# Altium integrated library Linear Technology Power Management uModule Regulators.IntLib: 166 symbols (part 63 of 67)
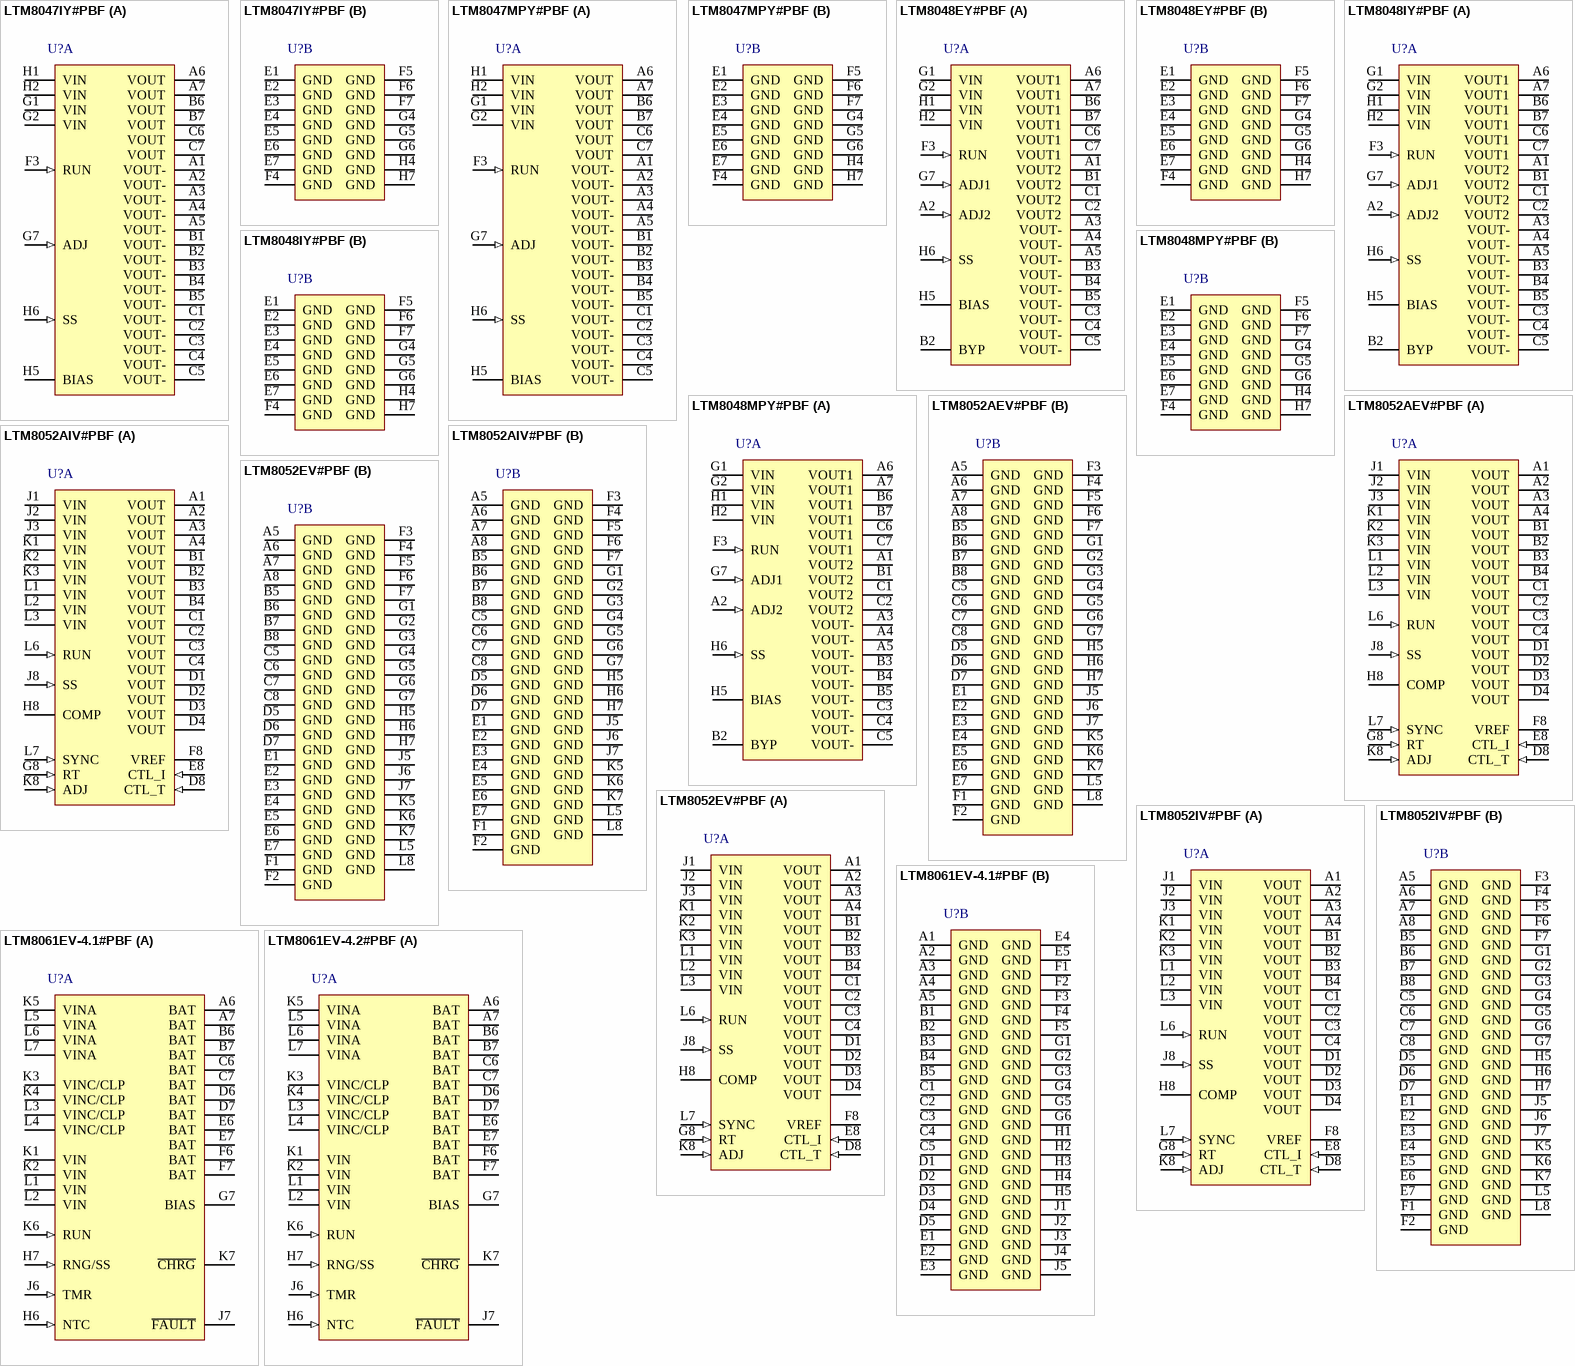
[diagram p89: symbols LTM8047IY#PBF to LTM8061EV-4.2#PBF]

## LTM8052AIV#PBF
designator U?
36 VIN, 5 A, 2-Quadrant CVCC Step-Down uModule Regulator, 81-pin LGA, -40 to 125 degC, Pb-Free, Tray; Manufacturer: Linear Technology; PartNumber: LTM8052AIV#PBF; Extended Temp: E, I; Frequency Adjust Range: 100kHz - 1MHz; Frequency(kHz): 1000; Ishutdown(uA): 0.1; Isupply(mA): 17; Number of Outputs: 1; Output Current(A): 5; Switch Current(A): 5.6; Synchronous: no; Topology: Buck; Vin Max(V): 36; Vin Min(V): 6; Vout Max(V): 24; Vout Min(V): 1.2; DatasheetVersion: Rev. C; PackageVersion: Rev. A, 01/2013; PackageReference: LGA-81; PackageDescription: 81-Pin LGA, Body 15 x 11.25 mm, Pitch 1.27 mm; Supplier 1: Digi-Key; Supplier Part Number 1: LTM8052AIV#PBF-ND; Supplier 2: Newark; Supplier Part Number 2: 24W5389; Frequency Sync Range: 100kHz - 1MHz; Packing: Tray; RoHS: TRUE; Tracking: no; Mounting Technology: Surface Mount; Code_JEDEC: MO-222; ComponentLink1Description: Manufacturer URL; ComponentLink1URL: http://www.linear.com/; ComponentLink2Description: Datasheet; ComponentLink2URL: http://cds.linear.com/docs/en/datasheet/8052fc.pdf; ComponentLink3Description: Package Specification; ComponentLink3URL: http://cds.linear.com/docs/en/packaging/05081868_A_lga81.pdf
footprint LT-LGA-81-15000X11250X2820_V (LGA, 81-Leads, Body 15x11.25mm, Pitch 1.27mm)
part A pins: A1 VOUT (power) "Power Output Pins. Apply the output filter capacitor and the output load between these pins and GND pins. When reverse current is being driven into the LTM8052/LTM8052A’s output by the load, the energy is delivered bac(See Datasheet)", A2 VOUT (power) "Power Output Pins. Apply the output filter capacitor and the output load between these pins and GND pins. When reverse current is being driven into the LTM8052/LTM8052A’s output by the load, the energy is delivered bac(See Datasheet)", A3 VOUT (power) "Power Output Pins. Apply the output filter capacitor and the output load between these pins and GND pins. When reverse current is being driven into the LTM8052/LTM8052A’s output by the load, the energy is delivered bac(See Datasheet)", A4 VOUT (power) "Power Output Pins. Apply the output filter capacitor and the output load between these pins and GND pins. When reverse current is being driven into the LTM8052/LTM8052A’s output by the load, the energy is delivered bac(See Datasheet)", B1 VOUT (power) "Power Output Pins. Apply the output filter capacitor and the output load between these pins and GND pins. When reverse current is being driven into the LTM8052/LTM8052A’s output by the load, the energy is delivered bac(See Datasheet)", B2 VOUT (power) "Power Output Pins. Apply the output filter capacitor and the output load between these pins and GND pins. When reverse current is being driven into the LTM8052/LTM8052A’s output by the load, the energy is delivered bac(See Datasheet)", B3 VOUT (power) "Power Output Pins. Apply the output filter capacitor and the output load between these pins and GND pins. When reverse current is being driven into the LTM8052/LTM8052A’s output by the load, the energy is delivered bac(See Datasheet)", B4 VOUT (power) "Power Output Pins. Apply the output filter capacitor and the output load between these pins and GND pins. When reverse current is being driven into the LTM8052/LTM8052A’s output by the load, the energy is delivered bac(See Datasheet)", C1 VOUT (power) "Power Output Pins. Apply the output filter capacitor and the output load between these pins and GND pins. When reverse current is being driven into the LTM8052/LTM8052A’s output by the load, the energy is delivered bac(See Datasheet)", C2 VOUT (power) "Power Output Pins. Apply the output filter capacitor and the output load between these pins and GND pins. When reverse current is being driven into the LTM8052/LTM8052A’s output by the load, the energy is delivered bac(See Datasheet)", C3 VOUT (power) "Power Output Pins. Apply the output filter capacitor and the output load between these pins and GND pins. When reverse current is being driven into the LTM8052/LTM8052A’s output by the load, the energy is delivered bac(See Datasheet)", C4 VOUT (power) "Power Output Pins. Apply the output filter capacitor and the output load between these pins and GND pins. When reverse current is being driven into the LTM8052/LTM8052A’s output by the load, the energy is delivered bac(See Datasheet)", D1 VOUT (power) "Power Output Pins. Apply the output filter capacitor and the output load between these pins and GND pins. When reverse current is being driven into the LTM8052/LTM8052A’s output by the load, the energy is delivered bac(See Datasheet)", D2 VOUT (power) "Power Output Pins. Apply the output filter capacitor and the output load between these pins and GND pins. When reverse current is being driven into the LTM8052/LTM8052A’s output by the load, the energy is delivered bac(See Datasheet)", D3 VOUT (power) "Power Output Pins. Apply the output filter capacitor and the output load between these pins and GND pins. When reverse current is being driven into the LTM8052/LTM8052A’s output by the load, the energy is delivered bac(See Datasheet)", D4 VOUT (power) "Power Output Pins. Apply the output filter capacitor and the output load between these pins and GND pins. When reverse current is being driven into the LTM8052/LTM8052A’s output by the load, the energy is delivered bac(See Datasheet)", D8 CTL_T (in) "Connect a resistor/NTCthermistornetwork to the CTL_T pin to reduce the maximum regulated output current of the LTM8052/LTM8052A in response to temperature. The maximum control voltage is 1.5V. If this function is not used, (See Datasheet)", E8 CTL_I (in) "The CTL_I pin reduces the maximum regulated output current of the LTM8052/LTM8052A. The maximum control voltage is 1.5V. If this function is not used, tie this pin to VREF.", F8 VREF "Buffered 2V Reference Capable of 0.5mA Drive. It is valid when VIN > 6V and RUN is active high.", G8 RT (in) "The RT pin is used to program the switching frequency of the LTM8052/LTM8052A by connecting a resistorfromthispintoground. TheApplicationsInformationsection of the data sheet includes a table to determine the (See Datasheet)", H8 COMP "Compensation Pin. This pin is generally not used. The LTM8052/LTM8052A is internally compensated, but some rare situations may arise that require a modification to the control loop. This pin connects directly (See Datasheet)", J1 VIN (power) "The VIN pins supply current to the LTM8052/ LTM8052A’s internal regulator and to the internal power  switches. This pin must be locally bypassed with an external, low ESR capacitor; see Table 1 for recommended  values.", J2 VIN (power) "The VIN pins supply current to the LTM8052/ LTM8052A’s internal regulator and to the internal power  switches. This pin must be locally bypassed with an external, low ESR capacitor; see Table 1 for recommended  values.", J3 VIN (power) "The VIN pins supply current to the LTM8052/ LTM8052A’s internal regulator and to the internal power  switches. This pin must be locally bypassed with an external, low ESR capacitor; see Table 1 for recommended  values.", J8 SS (in) "Soft-Start Pin. Place an external capacitor to ground to ramp the output voltage during start-up conditions. The soft-start pin has an 11uA charging current.", K1 VIN (power) "The VIN pins supply current to the LTM8052/ LTM8052A’s internal regulator and to the internal power  switches. This pin must be locally bypassed with an external, low ESR capacitor; see Table 1 for recommended  values.", K2 VIN (power) "The VIN pins supply current to the LTM8052/ LTM8052A’s internal regulator and to the internal power  switches. This pin must be locally bypassed with an external, low ESR capacitor; see Table 1 for recommended  values.", K3 VIN (power) "The VIN pins supply current to the LTM8052/ LTM8052A’s internal regulator and to the internal power  switches. This pin must be locally bypassed with an external, low ESR capacitor; see Table 1 for recommended  values.", K8 ADJ (in) "The LTM8052/LTM8052A regulates its ADJ pin to 1.19V. Connect the adjust resistor from this pin to ground.", L1 VIN (power) "The VIN pins supply current to the LTM8052/ LTM8052A’s internal regulator and to the internal power  switches. This pin must be locally bypassed with an external, low ESR capacitor; see Table 1 for recommended  values.", L2 VIN (power) "The VIN pins supply current to the LTM8052/ LTM8052A’s internal regulator and to the internal power  switches. This pin must be locally bypassed with an external, low ESR capacitor; see Table 1 for recommended  values.", L3 VIN (power) "The VIN pins supply current to the LTM8052/ LTM8052A’s internal regulator and to the internal power  switches. This pin must be locally bypassed with an external, low ESR capacitor; see Table 1 for recommended  values.", L6 RUN (in) "The RUN pin acts as an enable pin and turns on the internal circuitry. It may also be used to implement a precision UVLO. See the Applications Information section for details. The RUN pin is internally clamped, so it may be (See Datasheet)", L7 SYNC (in) "Frequency Synchronization Pin. This pin allows the switching frequency to be synchronized to an external clock. The RT resistor should be chosen to operate the internal clock at 20% lower than the SYNC pulse frequency. This (See Datasheet)"
part B pins: A5 GND (power) "Tie these GND pins to a local ground plane  below the LTM8052/LTM8052A and the circuit components. In most applications, the bulk of the heat flow out  of the LTM8052/LTM8052A is through these pads, so the  printed circuit (See Datasheet)", A6 GND (power) "Tie these GND pins to a local ground plane  below the LTM8052/LTM8052A and the circuit components. In most applications, the bulk of the heat flow out  of the LTM8052/LTM8052A is through these pads, so the  printed circuit (See Datasheet)", A7 GND (power) "Tie these GND pins to a local ground plane  below the LTM8052/LTM8052A and the circuit components. In most applications, the bulk of the heat flow out  of the LTM8052/LTM8052A is through these pads, so the  printed circuit (See Datasheet)", A8 GND (power) "Tie these GND pins to a local ground plane  below the LTM8052/LTM8052A and the circuit components. In most applications, the bulk of the heat flow out  of the LTM8052/LTM8052A is through these pads, so the  printed circuit (See Datasheet)", B5 GND (power) "Tie these GND pins to a local ground plane  below the LTM8052/LTM8052A and the circuit components. In most applications, the bulk of the heat flow out  of the LTM8052/LTM8052A is through these pads, so the  printed circuit (See Datasheet)", B6 GND (power) "Tie these GND pins to a local ground plane  below the LTM8052/LTM8052A and the circuit components. In most applications, the bulk of the heat flow out  of the LTM8052/LTM8052A is through these pads, so the  printed circuit (See Datasheet)", B7 GND (power) "Tie these GND pins to a local ground plane  below the LTM8052/LTM8052A and the circuit components. In most applications, the bulk of the heat flow out  of the LTM8052/LTM8052A is through these pads, so the  printed circuit (See Datasheet)", B8 GND (power) "Tie these GND pins to a local ground plane  below the LTM8052/LTM8052A and the circuit components. In most applications, the bulk of the heat flow out  of the LTM8052/LTM8052A is through these pads, so the  printed circuit (See Datasheet)", C5 GND (power) "Tie these GND pins to a local ground plane  below the LTM8052/LTM8052A and the circuit components. In most applications, the bulk of the heat flow out  of the LTM8052/LTM8052A is through these pads, so the  printed circuit (See Datasheet)", C6 GND (power) "Tie these GND pins to a local ground plane  below the LTM8052/LTM8052A and the circuit components. In most applications, the bulk of the heat flow out  of the LTM8052/LTM8052A is through these pads, so the  printed circuit (See Datasheet)", C7 GND (power) "Tie these GND pins to a local ground plane  below the LTM8052/LTM8052A and the circuit components. In most applications, the bulk of the heat flow out  of the LTM8052/LTM8052A is through these pads, so the  printed circuit (See Datasheet)", C8 GND (power) "Tie these GND pins to a local ground plane  below the LTM8052/LTM8052A and the circuit components. In most applications, the bulk of the heat flow out  of the LTM8052/LTM8052A is through these pads, so the  printed circuit (See Datasheet)", D5 GND (power) "Tie these GND pins to a local ground plane  below the LTM8052/LTM8052A and the circuit components. In most applications, the bulk of the heat flow out  of the LTM8052/LTM8052A is through these pads, so the  printed circuit (See Datasheet)", D6 GND (power) "Tie these GND pins to a local ground plane  below the LTM8052/LTM8052A and the circuit components. In most applications, the bulk of the heat flow out  of the LTM8052/LTM8052A is through these pads, so the  printed circuit (See Datasheet)", D7 GND (power) "Tie these GND pins to a local ground plane  below the LTM8052/LTM8052A and the circuit components. In most applications, the bulk of the heat flow out  of the LTM8052/LTM8052A is through these pads, so the  printed circuit (See Datasheet)", E1 GND (power) "Tie these GND pins to a local ground plane  below the LTM8052/LTM8052A and the circuit components. In most applications, the bulk of the heat flow out  of the LTM8052/LTM8052A is through these pads, so the  printed circuit (See Datasheet)", E2 GND (power) "Tie these GND pins to a local ground plane  below the LTM8052/LTM8052A and the circuit components. In most applications, the bulk of the heat flow out  of the LTM8052/LTM8052A is through these pads, so the  printed circuit (See Datasheet)", E3 GND (power) "Tie these GND pins to a local ground plane  below the LTM8052/LTM8052A and the circuit components. In most applications, the bulk of the heat flow out  of the LTM8052/LTM8052A is through these pads, so the  printed circuit (See Datasheet)", E4 GND (power) "Tie these GND pins to a local ground plane  below the LTM8052/LTM8052A and the circuit components. In most applications, the bulk of the heat flow out  of the LTM8052/LTM8052A is through these pads, so the  printed circuit (See Datasheet)", E5 GND (power) "Tie these GND pins to a local ground plane  below the LTM8052/LTM8052A and the circuit components. In most applications, the bulk of the heat flow out  of the LTM8052/LTM8052A is through these pads, so the  printed circuit (See Datasheet)", E6 GND (power) "Tie these GND pins to a local ground plane  below the LTM8052/LTM8052A and the circuit components. In most applications, the bulk of the heat flow out  of the LTM8052/LTM8052A is through these pads, so the  printed circuit (See Datasheet)", E7 GND (power) "Tie these GND pins to a local ground plane  below the LTM8052/LTM8052A and the circuit components. In most applications, the bulk of the heat flow out  of the LTM8052/LTM8052A is through these pads, so the  printed circuit (See Datasheet)", F1 GND (power) "Tie these GND pins to a local ground plane  below the LTM8052/LTM8052A and the circuit components. In most applications, the bulk of the heat flow out  of the LTM8052/LTM8052A is through these pads, so the  printed circuit (See Datasheet)", F2 GND (power) "Tie these GND pins to a local ground plane  below the LTM8052/LTM8052A and the circuit components. In most applications, the bulk of the heat flow out  of the LTM8052/LTM8052A is through these pads, so the  printed circuit (See Datasheet)", F3 GND (power) "Tie these GND pins to a local ground plane  below the LTM8052/LTM8052A and the circuit components. In most applications, the bulk of the heat flow out  of the LTM8052/LTM8052A is through these pads, so the  printed circuit (See Datasheet)", F4 GND (power) "Tie these GND pins to a local ground plane  below the LTM8052/LTM8052A and the circuit components. In most applications, the bulk of the heat flow out  of the LTM8052/LTM8052A is through these pads, so the  printed circuit (See Datasheet)", F5 GND (power) "Tie these GND pins to a local ground plane  below the LTM8052/LTM8052A and the circuit components. In most applications, the bulk of the heat flow out  of the LTM8052/LTM8052A is through these pads, so the  printed circuit (See Datasheet)", F6 GND (power) "Tie these GND pins to a local ground plane  below the LTM8052/LTM8052A and the circuit components. In most applications, the bulk of the heat flow out  of the LTM8052/LTM8052A is through these pads, so the  printed circuit (See Datasheet)", F7 GND (power) "Tie these GND pins to a local ground plane  below the LTM8052/LTM8052A and the circuit components. In most applications, the bulk of the heat flow out  of the LTM8052/LTM8052A is through these pads, so the  printed circuit (See Datasheet)", G1 GND (power) "Tie these GND pins to a local ground plane  below the LTM8052/LTM8052A and the circuit components. In most applications, the bulk of the heat flow out  of the LTM8052/LTM8052A is through these pads, so the  printed circuit (See Datasheet)", G2 GND (power) "Tie these GND pins to a local ground plane  below the LTM8052/LTM8052A and the circuit components. In most applications, the bulk of the heat flow out  of the LTM8052/LTM8052A is through these pads, so the  printed circuit (See Datasheet)", G3 GND (power) "Tie these GND pins to a local ground plane  below the LTM8052/LTM8052A and the circuit components. In most applications, the bulk of the heat flow out  of the LTM8052/LTM8052A is through these pads, so the  printed circuit (See Datasheet)", G4 GND (power) "Tie these GND pins to a local ground plane  below the LTM8052/LTM8052A and the circuit components. In most applications, the bulk of the heat flow out  of the LTM8052/LTM8052A is through these pads, so the  printed circuit (See Datasheet)", G5 GND (power) "Tie these GND pins to a local ground plane  below the LTM8052/LTM8052A and the circuit components. In most applications, the bulk of the heat flow out  of the LTM8052/LTM8052A is through these pads, so the  printed circuit (See Datasheet)", G6 GND (power) "Tie these GND pins to a local ground plane  below the LTM8052/LTM8052A and the circuit components. In most applications, the bulk of the heat flow out  of the LTM8052/LTM8052A is through these pads, so the  printed circuit (See Datasheet)", G7 GND (power) "Tie these GND pins to a local ground plane  below the LTM8052/LTM8052A and the circuit components. In most applications, the bulk of the heat flow out  of the LTM8052/LTM8052A is through these pads, so the  printed circuit (See Datasheet)", H5 GND (power) "Tie these GND pins to a local ground plane  below the LTM8052/LTM8052A and the circuit components. In most applications, the bulk of the heat flow out  of the LTM8052/LTM8052A is through these pads, so the  printed circuit (See Datasheet)", H6 GND (power) "Tie these GND pins to a local ground plane  below the LTM8052/LTM8052A and the circuit components. In most applications, the bulk of the heat flow out  of the LTM8052/LTM8052A is through these pads, so the  printed circuit (See Datasheet)", H7 GND (power) "Tie these GND pins to a local ground plane  below the LTM8052/LTM8052A and the circuit components. In most applications, the bulk of the heat flow out  of the LTM8052/LTM8052A is through these pads, so the  printed circuit (See Datasheet)", J5 GND (power) "Tie these GND pins to a local ground plane  below the LTM8052/LTM8052A and the circuit components. In most applications, the bulk of the heat flow out  of the LTM8052/LTM8052A is through these pads, so the  printed circuit (See Datasheet)", J6 GND (power) "Tie these GND pins to a local ground plane  below the LTM8052/LTM8052A and the circuit components. In most applications, the bulk of the heat flow out  of the LTM8052/LTM8052A is through these pads, so the  printed circuit (See Datasheet)", J7 GND (power) "Tie these GND pins to a local ground plane  below the LTM8052/LTM8052A and the circuit components. In most applications, the bulk of the heat flow out  of the LTM8052/LTM8052A is through these pads, so the  printed circuit (See Datasheet)", K5 GND (power) "Tie these GND pins to a local ground plane  below the LTM8052/LTM8052A and the circuit components. In most applications, the bulk of the heat flow out  of the LTM8052/LTM8052A is through these pads, so the  printed circuit (See Datasheet)", K6 GND (power) "Tie these GND pins to a local ground plane  below the LTM8052/LTM8052A and the circuit components. In most applications, the bulk of the heat flow out  of the LTM8052/LTM8052A is through these pads, so the  printed circuit (See Datasheet)", K7 GND (power) "Tie these GND pins to a local ground plane  below the LTM8052/LTM8052A and the circuit components. In most applications, the bulk of the heat flow out  of the LTM8052/LTM8052A is through these pads, so the  printed circuit (See Datasheet)", L5 GND (power) "Tie these GND pins to a local ground plane  below the LTM8052/LTM8052A and the circuit components. In most applications, the bulk of the heat flow out  of the LTM8052/LTM8052A is through these pads, so the  printed circuit (See Datasheet)", L8 GND (power) "Tie these GND pins to a local ground plane  below the LTM8052/LTM8052A and the circuit components. In most applications, the bulk of the heat flow out  of the LTM8052/LTM8052A is through these pads, so the  printed circuit (See Datasheet)"

## LTM8052EV#PBF
designator U?
36 VIN, 5 A, 2-Quadrant CVCC Step-Down uModule Regulator, 81-pin LGA, -40 to 125 degC, Pb-Free, Tray; Manufacturer: Linear Technology; PartNumber: LTM8052EV#PBF; Extended Temp: E, I; Frequency Adjust Range: 100kHz - 1MHz; Frequency(kHz): 1000; Ishutdown(uA): 0.1; Isupply(mA): 17; Number of Outputs: 1; Output Current(A): 5; Switch Current(A): 5.6; Synchronous: no; Topology: Buck; Vin Max(V): 36; Vin Min(V): 6; Vout Max(V): 24; Vout Min(V): 1.2; DatasheetVersion: Rev. C; PackageVersion: Rev. A, 01/2013; PackageReference: LGA-81; PackageDescription: 81-Pin LGA, Body 15 x 11.25 mm, Pitch 1.27 mm; Supplier 1: Digi-Key; Supplier Part Number 1: LTM8052EV#PBF-ND; Supplier 2: Farnell; Supplier Part Number 2: 2115897; Supplier 3: Newark; Supplier Part Number 3: 78T3678; Frequency Sync Range: 100kHz - 1MHz; Packing: Tray; RoHS: TRUE; Tracking: no; Mounting Technology: Surface Mount; Code_JEDEC: MO-222; ComponentLink1Description: Manufacturer URL; ComponentLink1URL: http://www.linear.com/; ComponentLink2Description: Datasheet; ComponentLink2URL: http://cds.linear.com/docs/en/datasheet/8052fc.pdf; ComponentLink3Description: Package Specification; ComponentLink3URL: http://cds.linear.com/docs/en/packaging/05081868_A_lga81.pdf
footprint LT-LGA-81-15000X11250X2820_V (LGA, 81-Leads, Body 15x11.25mm, Pitch 1.27mm)
part A pins: A1 VOUT (power) "Power Output Pins. Apply the output filter capacitor and the output load between these pins and GND pins. When reverse current is being driven into the LTM8052/LTM8052A’s output by the load, the energy is delivered bac(See Datasheet)", A2 VOUT (power) "Power Output Pins. Apply the output filter capacitor and the output load between these pins and GND pins. When reverse current is being driven into the LTM8052/LTM8052A’s output by the load, the energy is delivered bac(See Datasheet)", A3 VOUT (power) "Power Output Pins. Apply the output filter capacitor and the output load between these pins and GND pins. When reverse current is being driven into the LTM8052/LTM8052A’s output by the load, the energy is delivered bac(See Datasheet)", A4 VOUT (power) "Power Output Pins. Apply the output filter capacitor and the output load between these pins and GND pins. When reverse current is being driven into the LTM8052/LTM8052A’s output by the load, the energy is delivered bac(See Datasheet)", B1 VOUT (power) "Power Output Pins. Apply the output filter capacitor and the output load between these pins and GND pins. When reverse current is being driven into the LTM8052/LTM8052A’s output by the load, the energy is delivered bac(See Datasheet)", B2 VOUT (power) "Power Output Pins. Apply the output filter capacitor and the output load between these pins and GND pins. When reverse current is being driven into the LTM8052/LTM8052A’s output by the load, the energy is delivered bac(See Datasheet)", B3 VOUT (power) "Power Output Pins. Apply the output filter capacitor and the output load between these pins and GND pins. When reverse current is being driven into the LTM8052/LTM8052A’s output by the load, the energy is delivered bac(See Datasheet)", B4 VOUT (power) "Power Output Pins. Apply the output filter capacitor and the output load between these pins and GND pins. When reverse current is being driven into the LTM8052/LTM8052A’s output by the load, the energy is delivered bac(See Datasheet)", C1 VOUT (power) "Power Output Pins. Apply the output filter capacitor and the output load between these pins and GND pins. When reverse current is being driven into the LTM8052/LTM8052A’s output by the load, the energy is delivered bac(See Datasheet)", C2 VOUT (power) "Power Output Pins. Apply the output filter capacitor and the output load between these pins and GND pins. When reverse current is being driven into the LTM8052/LTM8052A’s output by the load, the energy is delivered bac(See Datasheet)", C3 VOUT (power) "Power Output Pins. Apply the output filter capacitor and the output load between these pins and GND pins. When reverse current is being driven into the LTM8052/LTM8052A’s output by the load, the energy is delivered bac(See Datasheet)", C4 VOUT (power) "Power Output Pins. Apply the output filter capacitor and the output load between these pins and GND pins. When reverse current is being driven into the LTM8052/LTM8052A’s output by the load, the energy is delivered bac(See Datasheet)", D1 VOUT (power) "Power Output Pins. Apply the output filter capacitor and the output load between these pins and GND pins. When reverse current is being driven into the LTM8052/LTM8052A’s output by the load, the energy is delivered bac(See Datasheet)", D2 VOUT (power) "Power Output Pins. Apply the output filter capacitor and the output load between these pins and GND pins. When reverse current is being driven into the LTM8052/LTM8052A’s output by the load, the energy is delivered bac(See Datasheet)", D3 VOUT (power) "Power Output Pins. Apply the output filter capacitor and the output load between these pins and GND pins. When reverse current is being driven into the LTM8052/LTM8052A’s output by the load, the energy is delivered bac(See Datasheet)", D4 VOUT (power) "Power Output Pins. Apply the output filter capacitor and the output load between these pins and GND pins. When reverse current is being driven into the LTM8052/LTM8052A’s output by the load, the energy is delivered bac(See Datasheet)", D8 CTL_T (in) "Connect a resistor/NTCthermistornetwork to the CTL_T pin to reduce the maximum regulated output current of the LTM8052/LTM8052A in response to temperature. The maximum control voltage is 1.5V. If this function is not used, (See Datasheet)", E8 CTL_I (in) "The CTL_I pin reduces the maximum regulated output current of the LTM8052/LTM8052A. The maximum control voltage is 1.5V. If this function is not used, tie this pin to VREF.", F8 VREF "Buffered 2V Reference Capable of 0.5mA Drive. It is valid when VIN > 6V and RUN is active high.", G8 RT (in) "The RT pin is used to program the switching frequency of the LTM8052/LTM8052A by connecting a resistorfromthispintoground. TheApplicationsInformationsection of the data sheet includes a table to determine the (See Datasheet)", H8 COMP "Compensation Pin. This pin is generally not used. The LTM8052/LTM8052A is internally compensated, but some rare situations may arise that require a modification to the control loop. This pin connects directly (See Datasheet)", J1 VIN (power) "The VIN pins supply current to the LTM8052/ LTM8052A’s internal regulator and to the internal power  switches. This pin must be locally bypassed with an external, low ESR capacitor; see Table 1 for recommended  values.", J2 VIN (power) "The VIN pins supply current to the LTM8052/ LTM8052A’s internal regulator and to the internal power  switches. This pin must be locally bypassed with an external, low ESR capacitor; see Table 1 for recommended  values.", J3 VIN (power) "The VIN pins supply current to the LTM8052/ LTM8052A’s internal regulator and to the internal power  switches. This pin must be locally bypassed with an external, low ESR capacitor; see Table 1 for recommended  values.", J8 SS (in) "Soft-Start Pin. Place an external capacitor to ground to ramp the output voltage during start-up conditions. The soft-start pin has an 11uA charging current.", K1 VIN (power) "The VIN pins supply current to the LTM8052/ LTM8052A’s internal regulator and to the internal power  switches. This pin must be locally bypassed with an external, low ESR capacitor; see Table 1 for recommended  values.", K2 VIN (power) "The VIN pins supply current to the LTM8052/ LTM8052A’s internal regulator and to the internal power  switches. This pin must be locally bypassed with an external, low ESR capacitor; see Table 1 for recommended  values.", K3 VIN (power) "The VIN pins supply current to the LTM8052/ LTM8052A’s internal regulator and to the internal power  switches. This pin must be locally bypassed with an external, low ESR capacitor; see Table 1 for recommended  values.", K8 ADJ (in) "The LTM8052/LTM8052A regulates its ADJ pin to 1.19V. Connect the adjust resistor from this pin to ground.", L1 VIN (power) "The VIN pins supply current to the LTM8052/ LTM8052A’s internal regulator and to the internal power  switches. This pin must be locally bypassed with an external, low ESR capacitor; see Table 1 for recommended  values.", L2 VIN (power) "The VIN pins supply current to the LTM8052/ LTM8052A’s internal regulator and to the internal power  switches. This pin must be locally bypassed with an external, low ESR capacitor; see Table 1 for recommended  values.", L3 VIN (power) "The VIN pins supply current to the LTM8052/ LTM8052A’s internal regulator and to the internal power  switches. This pin must be locally bypassed with an external, low ESR capacitor; see Table 1 for recommended  values.", L6 RUN (in) "The RUN pin acts as an enable pin and turns on the internal circuitry. It may also be used to implement a precision UVLO. See the Applications Information section for details. The RUN pin is internally clamped, so it may be (See Datasheet)", L7 SYNC (in) "Frequency Synchronization Pin. This pin allows the switching frequency to be synchronized to an external clock. The RT resistor should be chosen to operate the internal clock at 20% lower than the SYNC pulse frequency. This (See Datasheet)"
part B pins: A5 GND (power) "Tie these GND pins to a local ground plane  below the LTM8052/LTM8052A and the circuit components. In most applications, the bulk of the heat flow out  of the LTM8052/LTM8052A is through these pads, so the  printed circuit (See Datasheet)", A6 GND (power) "Tie these GND pins to a local ground plane  below the LTM8052/LTM8052A and the circuit components. In most applications, the bulk of the heat flow out  of the LTM8052/LTM8052A is through these pads, so the  printed circuit (See Datasheet)", A7 GND (power) "Tie these GND pins to a local ground plane  below the LTM8052/LTM8052A and the circuit components. In most applications, the bulk of the heat flow out  of the LTM8052/LTM8052A is through these pads, so the  printed circuit (See Datasheet)", A8 GND (power) "Tie these GND pins to a local ground plane  below the LTM8052/LTM8052A and the circuit components. In most applications, the bulk of the heat flow out  of the LTM8052/LTM8052A is through these pads, so the  printed circuit (See Datasheet)", B5 GND (power) "Tie these GND pins to a local ground plane  below the LTM8052/LTM8052A and the circuit components. In most applications, the bulk of the heat flow out  of the LTM8052/LTM8052A is through these pads, so the  printed circuit (See Datasheet)", B6 GND (power) "Tie these GND pins to a local ground plane  below the LTM8052/LTM8052A and the circuit components. In most applications, the bulk of the heat flow out  of the LTM8052/LTM8052A is through these pads, so the  printed circuit (See Datasheet)", B7 GND (power) "Tie these GND pins to a local ground plane  below the LTM8052/LTM8052A and the circuit components. In most applications, the bulk of the heat flow out  of the LTM8052/LTM8052A is through these pads, so the  printed circuit (See Datasheet)", B8 GND (power) "Tie these GND pins to a local ground plane  below the LTM8052/LTM8052A and the circuit components. In most applications, the bulk of the heat flow out  of the LTM8052/LTM8052A is through these pads, so the  printed circuit (See Datasheet)", C5 GND (power) "Tie these GND pins to a local ground plane  below the LTM8052/LTM8052A and the circuit components. In most applications, the bulk of the heat flow out  of the LTM8052/LTM8052A is through these pads, so the  printed circuit (See Datasheet)", C6 GND (power) "Tie these GND pins to a local ground plane  below the LTM8052/LTM8052A and the circuit components. In most applications, the bulk of the heat flow out  of the LTM8052/LTM8052A is through these pads, so the  printed circuit (See Datasheet)", C7 GND (power) "Tie these GND pins to a local ground plane  below the LTM8052/LTM8052A and the circuit components. In most applications, the bulk of the heat flow out  of the LTM8052/LTM8052A is through these pads, so the  printed circuit (See Datasheet)", C8 GND (power) "Tie these GND pins to a local ground plane  below the LTM8052/LTM8052A and the circuit components. In most applications, the bulk of the heat flow out  of the LTM8052/LTM8052A is through these pads, so the  printed circuit (See Datasheet)", D5 GND (power) "Tie these GND pins to a local ground plane  below the LTM8052/LTM8052A and the circuit components. In most applications, the bulk of the heat flow out  of the LTM8052/LTM8052A is through these pads, so the  printed circuit (See Datasheet)", D6 GND (power) "Tie these GND pins to a local ground plane  below the LTM8052/LTM8052A and the circuit components. In most applications, the bulk of the heat flow out  of the LTM8052/LTM8052A is through these pads, so the  printed circuit (See Datasheet)", D7 GND (power) "Tie these GND pins to a local ground plane  below the LTM8052/LTM8052A and the circuit components. In most applications, the bulk of the heat flow out  of the LTM8052/LTM8052A is through these pads, so the  printed circuit (See Datasheet)", E1 GND (power) "Tie these GND pins to a local ground plane  below the LTM8052/LTM8052A and the circuit components. In most applications, the bulk of the heat flow out  of the LTM8052/LTM8052A is through these pads, so the  printed circuit (See Datasheet)", E2 GND (power) "Tie these GND pins to a local ground plane  below the LTM8052/LTM8052A and the circuit components. In most applications, the bulk of the heat flow out  of the LTM8052/LTM8052A is through these pads, so the  printed circuit (See Datasheet)", E3 GND (power) "Tie these GND pins to a local ground plane  below the LTM8052/LTM8052A and the circuit components. In most applications, the bulk of the heat flow out  of the LTM8052/LTM8052A is through these pads, so the  printed circuit (See Datasheet)", E4 GND (power) "Tie these GND pins to a local ground plane  below the LTM8052/LTM8052A and the circuit components. In most applications, the bulk of the heat flow out  of the LTM8052/LTM8052A is through these pads, so the  printed circuit (See Datasheet)", E5 GND (power) "Tie these GND pins to a local ground plane  below the LTM8052/LTM8052A and the circuit components. In most applications, the bulk of the heat flow out  of the LTM8052/LTM8052A is through these pads, so the  printed circuit (See Datasheet)", E6 GND (power) "Tie these GND pins to a local ground plane  below the LTM8052/LTM8052A and the circuit components. In most applications, the bulk of the heat flow out  of the LTM8052/LTM8052A is through these pads, so the  printed circuit (See Datasheet)", E7 GND (power) "Tie these GND pins to a local ground plane  below the LTM8052/LTM8052A and the circuit components. In most applications, the bulk of the heat flow out  of the LTM8052/LTM8052A is through these pads, so the  printed circuit (See Datasheet)", F1 GND (power) "Tie these GND pins to a local ground plane  below the LTM8052/LTM8052A and the circuit components. In most applications, the bulk of the heat flow out  of the LTM8052/LTM8052A is through these pads, so the  printed circuit (See Datasheet)", F2 GND (power) "Tie these GND pins to a local ground plane  below the LTM8052/LTM8052A and the circuit components. In most applications, the bulk of the heat flow out  of the LTM8052/LTM8052A is through these pads, so the  printed circuit (See Datasheet)", F3 GND (power) "Tie these GND pins to a local ground plane  below the LTM8052/LTM8052A and the circuit components. In most applications, the bulk of the heat flow out  of the LTM8052/LTM8052A is through these pads, so the  printed circuit (See Datasheet)", F4 GND (power) "Tie these GND pins to a local ground plane  below the LTM8052/LTM8052A and the circuit components. In most applications, the bulk of the heat flow out  of the LTM8052/LTM8052A is through these pads, so the  printed circuit (See Datasheet)", F5 GND (power) "Tie these GND pins to a local ground plane  below the LTM8052/LTM8052A and the circuit components. In most applications, the bulk of the heat flow out  of the LTM8052/LTM8052A is through these pads, so the  printed circuit (See Datasheet)", F6 GND (power) "Tie these GND pins to a local ground plane  below the LTM8052/LTM8052A and the circuit components. In most applications, the bulk of the heat flow out  of the LTM8052/LTM8052A is through these pads, so the  printed circuit (See Datasheet)", F7 GND (power) "Tie these GND pins to a local ground plane  below the LTM8052/LTM8052A and the circuit components. In most applications, the bulk of the heat flow out  of the LTM8052/LTM8052A is through these pads, so the  printed circuit (See Datasheet)", G1 GND (power) "Tie these GND pins to a local ground plane  below the LTM8052/LTM8052A and the circuit components. In most applications, the bulk of the heat flow out  of the LTM8052/LTM8052A is through these pads, so the  printed circuit (See Datasheet)", G2 GND (power) "Tie these GND pins to a local ground plane  below the LTM8052/LTM8052A and the circuit components. In most applications, the bulk of the heat flow out  of the LTM8052/LTM8052A is through these pads, so the  printed circuit (See Datasheet)", G3 GND (power) "Tie these GND pins to a local ground plane  below the LTM8052/LTM8052A and the circuit components. In most applications, the bulk of the heat flow out  of the LTM8052/LTM8052A is through these pads, so the  printed circuit (See Datasheet)", G4 GND (power) "Tie these GND pins to a local ground plane  below the LTM8052/LTM8052A and the circuit components. In most applications, the bulk of the heat flow out  of the LTM8052/LTM8052A is through these pads, so the  printed circuit (See Datasheet)", G5 GND (power) "Tie these GND pins to a local ground plane  below the LTM8052/LTM8052A and the circuit components. In most applications, the bulk of the heat flow out  of the LTM8052/LTM8052A is through these pads, so the  printed circuit (See Datasheet)", G6 GND (power) "Tie these GND pins to a local ground plane  below the LTM8052/LTM8052A and the circuit components. In most applications, the bulk of the heat flow out  of the LTM8052/LTM8052A is through these pads, so the  printed circuit (See Datasheet)", G7 GND (power) "Tie these GND pins to a local ground plane  below the LTM8052/LTM8052A and the circuit components. In most applications, the bulk of the heat flow out  of the LTM8052/LTM8052A is through these pads, so the  printed circuit (See Datasheet)", H5 GND (power) "Tie these GND pins to a local ground plane  below the LTM8052/LTM8052A and the circuit components. In most applications, the bulk of the heat flow out  of the LTM8052/LTM8052A is through these pads, so the  printed circuit (See Datasheet)", H6 GND (power) "Tie these GND pins to a local ground plane  below the LTM8052/LTM8052A and the circuit components. In most applications, the bulk of the heat flow out  of the LTM8052/LTM8052A is through these pads, so the  printed circuit (See Datasheet)", H7 GND (power) "Tie these GND pins to a local ground plane  below the LTM8052/LTM8052A and the circuit components. In most applications, the bulk of the heat flow out  of the LTM8052/LTM8052A is through these pads, so the  printed circuit (See Datasheet)", J5 GND (power) "Tie these GND pins to a local ground plane  below the LTM8052/LTM8052A and the circuit components. In most applications, the bulk of the heat flow out  of the LTM8052/LTM8052A is through these pads, so the  printed circuit (See Datasheet)", J6 GND (power) "Tie these GND pins to a local ground plane  below the LTM8052/LTM8052A and the circuit components. In most applications, the bulk of the heat flow out  of the LTM8052/LTM8052A is through these pads, so the  printed circuit (See Datasheet)", J7 GND (power) "Tie these GND pins to a local ground plane  below the LTM8052/LTM8052A and the circuit components. In most applications, the bulk of the heat flow out  of the LTM8052/LTM8052A is through these pads, so the  printed circuit (See Datasheet)", K5 GND (power) "Tie these GND pins to a local ground plane  below the LTM8052/LTM8052A and the circuit components. In most applications, the bulk of the heat flow out  of the LTM8052/LTM8052A is through these pads, so the  printed circuit (See Datasheet)", K6 GND (power) "Tie these GND pins to a local ground plane  below the LTM8052/LTM8052A and the circuit components. In most applications, the bulk of the heat flow out  of the LTM8052/LTM8052A is through these pads, so the  printed circuit (See Datasheet)", K7 GND (power) "Tie these GND pins to a local ground plane  below the LTM8052/LTM8052A and the circuit components. In most applications, the bulk of the heat flow out  of the LTM8052/LTM8052A is through these pads, so the  printed circuit (See Datasheet)", L5 GND (power) "Tie these GND pins to a local ground plane  below the LTM8052/LTM8052A and the circuit components. In most applications, the bulk of the heat flow out  of the LTM8052/LTM8052A is through these pads, so the  printed circuit (See Datasheet)", L8 GND (power) "Tie these GND pins to a local ground plane  below the LTM8052/LTM8052A and the circuit components. In most applications, the bulk of the heat flow out  of the LTM8052/LTM8052A is through these pads, so the  printed circuit (See Datasheet)"